# Altium schematic symbol library FER_8A_4mOHM_0603.SchLib: 1 symbol
Pins are listed as number, name and electrical type; pins without a type are passive.

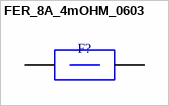
[diagram p0: symbol FER_8A_4mOHM_0603]

## FER_8A_4mOHM_0603
designator F?, comment FERRITE BEAD  (value not drawn)
8.5 Ohms @ 100 MHz 1 Power Line Ferrite Bead 0603 (1608 Metric) 8A 4mOhm; Supplier 1: Digi-Key; Supplier Part Number 1: 490-BLE18PS080SN1DCT-ND
footprint FER_8A_4mOHM_0603
pins: 1, 2